# EAGLE library part MP-KSN001B (library konashiv2-fixed)
Bluetooth® SMARTモジュール「Koshian™」（コシアン）は IoT機器やウェアラブル機器の開発を目指す「メイカーズ」に対し、 ハードウェアの設計を必要とせず、容易にラピッドプロトタイピングを可能にする画期的な開発キットです。
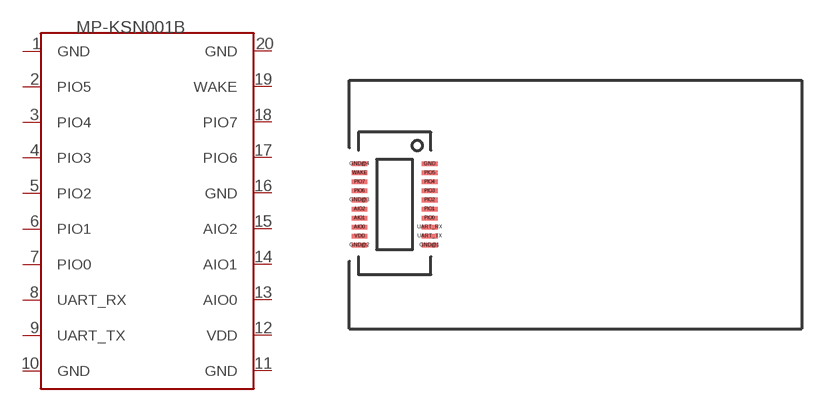
[diagram p4: symbol with the pads of WML-C69; footprint WML-C69]

Designator prefix -

## MP-KSN001B  [WML-C69]
AIO0  AIO0
AIO1  AIO1
AIO2  AIO2
GND  GND  pas
GND@1  GND  pwr
GND@2  GND  pwr
GND@3  GND  pwr
GND@4  GND  pwr
PIO0  PIO0
PIO1  PIO1
PIO2  PIO2
PIO3  PIO3
PIO4  PIO4
PIO5  PIO5
PIO6  PIO6
PIO7  PIO7
UART_RX  UART_RX
UART_TX  UART_TX
VDD  VDD  pwr
WAKE  WAKE

## Footprint WML-C69 (pad centres in mm)
konashiは、スマホ・タブレット端末と連携するフィジカルコンピューティングのためのツールキットです。
smd 0.7 x 0.2: AIO0 -9.17,-1; AIO1 -9.17,-0.6; AIO2 -9.17,-0.2; GND -6.07,1.8; GND@1 -6.07,-1.8; GND@2 -9.17,-1.8; GND@3 -9.17,0.2; GND@4 -9.17,1.8; PIO0 -6.07,-0.6; PIO1 -6.07,-0.2; PIO2 -6.07,0.2; PIO3 -6.07,0.6; PIO4 -6.07,1; PIO5 -6.07,1.4; PIO6 -9.17,0.6; PIO7 -9.17,1; UART_RX -6.07,-1; UART_TX -6.07,-1.4; VDD -9.17,-1.4; WAKE -9.17,1.4